# Altium footprint library 6U6DA_1229.PcbLib: 49 footprints (part 3 of 4)
Each footprint in its own frame and in the unit in brackets; x right, y up, seen from the top. Pads: shape width x height; smd on the part's side, far side on the other; paste and mask are expansions set on the pad; w line width, h text height; cw(c..) or ccw(c..) is an arc to the next point about the centre after c.
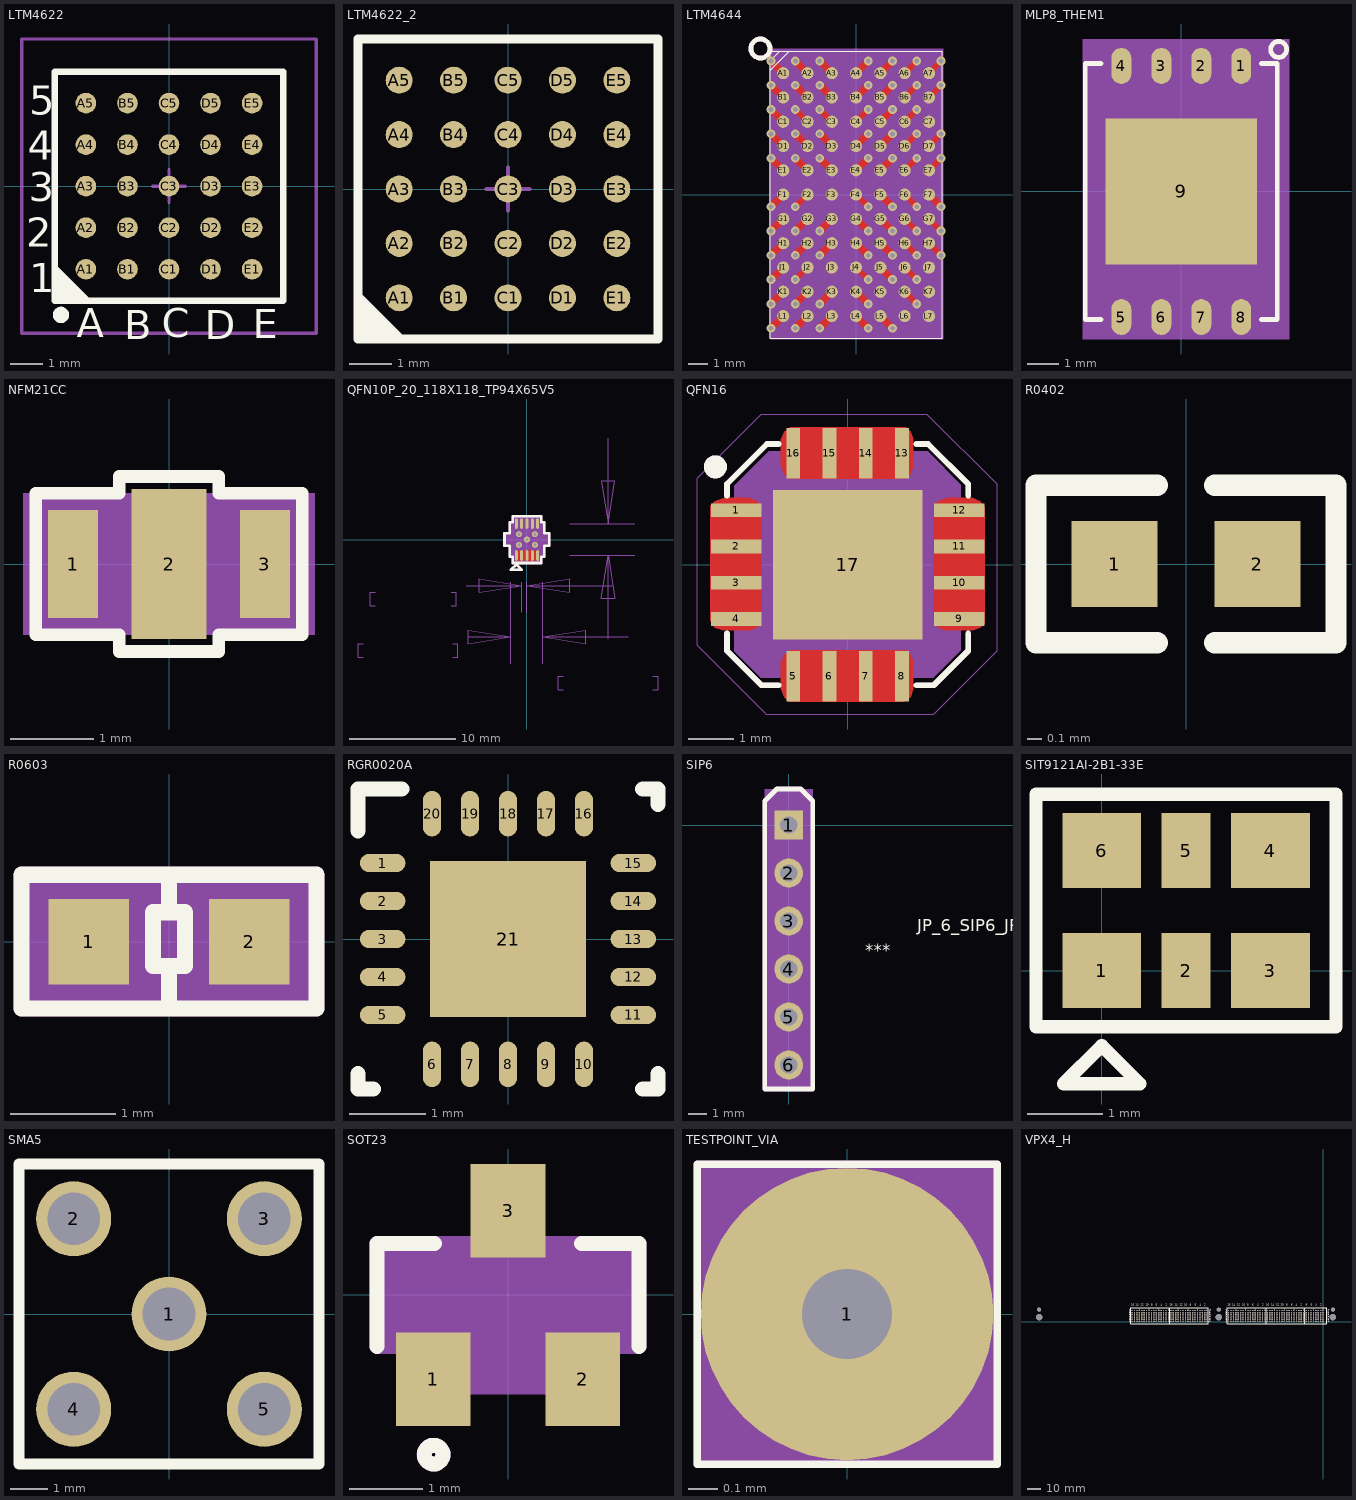
[diagram p2: the footprints below, top view; thin cyan lines are the x and y axes]

## LTM4622 [mm]
pads (25):
  round 0.63 smd: A1(-2.54,-2.54) A2(-2.54,-1.27) A3(-2.54,0) A4(-2.54,1.27) A5(-2.54,2.54) B1(-1.27,-2.54) B2(-1.27,-1.27) B3(-1.27,0) B4(-1.27,1.27) B5(-1.27,2.54) C1(0,-2.54) C2(0,-1.27) C3(0,0) C4(0,1.27) C5(0,2.54) D1(1.27,-2.54) D2(1.27,-1.27) D3(1.27,0) D4(1.27,1.27) D5(1.27,2.54) E1(2.54,-2.54) E2(2.54,-1.27) E3(2.54,0) E4(2.54,1.27) E5(2.54,2.54)
Top Overlay:
  circle w0.25: c-3.302,-3.937 r0.125
  region: -3.5,-2.5 -2.5,-3.5 -3.5,-3.5
  lines w0.2: -3.5,-2.5 -2.5,-3.5 ; -3.5,-3.5 -3.5,3.5 3.5,3.5 3.5,-3.5 -3.5,-3.5
  text "A" at -2.819,-4.623 h0.89
  text "B" at -1.372,-4.674 h0.89
  text "C" at -0.229,-4.623 h0.89
  text "D" at 1.092,-4.674 h0.89
  text "E" at 2.565,-4.648 h0.89
  text "1" at -4.267,-3.251 h0.89
  text "2" at -4.369,-1.854 h0.89
  text "3" at -4.293,-0.457 h0.89
  text "4" at -4.318,0.813 h0.89
  text "5" at -4.267,2.184 h0.89
Mechanical 13:
  lines w0.1: -3.5,-3.5 -3.5,3.5 3.5,3.5 3.5,-3.5 -3.5,-3.5
Mechanical 15:
  lines w0.1: -0.5,0 0.5,0 ; 0,-0.5 0,0.5 ; -4.5,-4.5 -4.5,4.5 4.5,4.5 4.5,-4.5 -4.5,-4.5
3D body: height 1.55, standoff 0, extent -3.5,-3.5 3.5,3.5

## LTM4622_2 [mm]
pads (25):
  round 0.63 smd: A1(-2.54,-2.54) A2(-2.54,-1.27) A3(-2.54,0) A4(-2.54,1.27) A5(-2.54,2.54) B1(-1.27,-2.54) B2(-1.27,-1.27) B3(-1.27,0) B4(-1.27,1.27) B5(-1.27,2.54) C1(0,-2.54) C2(0,-1.27) C3(0,0) C4(0,1.27) C5(0,2.54) D1(1.27,-2.54) D2(1.27,-1.27) D3(1.27,0) D4(1.27,1.27) D5(1.27,2.54) E1(2.54,-2.54) E2(2.54,-1.27) E3(2.54,0) E4(2.54,1.27) E5(2.54,2.54)
Top Overlay:
  region: -3.5,-2.5 -2.5,-3.5 -3.5,-3.5
  lines w0.2: -3.5,-2.5 -2.5,-3.5 ; -3.5,-3.5 -3.5,3.5 3.5,3.5 3.5,-3.5 -3.5,-3.5
Mechanical 13:
  lines w0.1: -3.5,-3.5 -3.5,3.5 3.5,3.5 3.5,-3.5 -3.5,-3.5
Mechanical 15:
  lines w0.1: -0.5,0 0.5,0 ; 0,-0.5 0,0.5
3D body: height 1.55, standoff 0, extent -3.5,-3.5 3.5,3.5

## LTM4644 [mm] "LTM4644"
pads (77):
  round 0.635 smd: A1(-3.81,6.35) A2(-2.54,6.35) A3(-1.27,6.35) A4(0,6.35) A5(1.27,6.35) A6(2.54,6.35) A7(3.81,6.35) B1(-3.81,5.08) B2(-2.54,5.08) B3(-1.27,5.08) B4(0,5.08) B5(1.27,5.08) B6(2.54,5.08) B7(3.81,5.08) C1(-3.81,3.81) C2(-2.54,3.81) C3(-1.27,3.81) C4(0,3.81) C5(1.27,3.81) C6(2.54,3.81) C7(3.81,3.81) D1(-3.81,2.54) D2(-2.54,2.54) D3(-1.27,2.54) D4(0,2.54) D5(1.27,2.54) D6(2.54,2.54) D7(3.81,2.54) E1(-3.81,1.27) E2(-2.54,1.27) E3(-1.27,1.27) E4(0,1.27) E5(1.27,1.27) E6(2.54,1.27) E7(3.81,1.27) F1(-3.81,0) F2(-2.54,0) F3(-1.27,0) F4(0,0) F5(1.27,0) F6(2.54,0) F7(3.81,0) G1(-3.81,-1.27) G2(-2.54,-1.27) G3(-1.27,-1.27) G4(0,-1.27) G5(1.27,-1.27) G6(2.54,-1.27) G7(3.81,-1.27) H1(-3.81,-2.54) H2(-2.54,-2.54) H3(-1.27,-2.54) H4(0,-2.54) H5(1.27,-2.54) H6(2.54,-2.54) H7(3.81,-2.54) J1(-3.81,-3.81) J2(-2.54,-3.81) J3(-1.27,-3.81) J4(0,-3.81) J5(1.27,-3.81) J6(2.54,-3.81) J7(3.81,-3.81) K1(-3.81,-5.08) K2(-2.54,-5.08) K3(-1.27,-5.08) K4(0,-5.08) K5(1.27,-5.08) K6(2.54,-5.08) K7(3.81,-5.08) L1(-3.81,-6.35) L2(-2.54,-6.35) L3(-1.27,-6.35) L4(0,-6.35) L5(1.27,-6.35) L6(2.54,-6.35) L7(3.81,-6.35)
via -1.905,-1.905 diameter 0.457 hole 0.254
via 0.635,-1.905 diameter 0.457 hole 0.254
via 1.905,-1.905 diameter 0.457 hole 0.254
via 0.635,-5.715 diameter 0.457 hole 0.254
via -1.905,-5.715 diameter 0.457 hole 0.254
via 4.445,-0.635 diameter 0.457 hole 0.254
via 1.905,-0.635 diameter 0.457 hole 0.254
via 1.905,-4.445 diameter 0.457 hole 0.254
via 0.635,3.175 diameter 0.457 hole 0.254
via 1.905,3.175 diameter 0.457 hole 0.254
via -1.905,3.175 diameter 0.457 hole 0.254
via 1.905,6.985 diameter 0.457 hole 0.254
via 0.635,6.985 diameter 0.457 hole 0.254
via 1.905,4.445 diameter 0.457 hole 0.254
via -3.175,-6.985 diameter 0.457 hole 0.254
via -3.175,-3.175 diameter 0.457 hole 0.254
via -4.445,-3.175 diameter 0.457 hole 0.254
via -4.445,-6.985 diameter 0.457 hole 0.254
via -3.175,5.715 diameter 0.457 hole 0.254
via -4.445,5.715 diameter 0.457 hole 0.254
via -3.175,1.905 diameter 0.457 hole 0.254
via -4.445,1.905 diameter 0.457 hole 0.254
via -3.175,-5.715 diameter 0.457 hole 0.254
via -4.445,-5.715 diameter 0.457 hole 0.254
via -4.445,-4.445 diameter 0.457 hole 0.254
via -1.905,-6.985 diameter 0.457 hole 0.254
via 0.635,-6.985 diameter 0.457 hole 0.254
via 1.905,-6.985 diameter 0.457 hole 0.254
via 0.635,-3.175 diameter 0.457 hole 0.254
via 1.905,-3.175 diameter 0.457 hole 0.254
via -1.905,-3.175 diameter 0.457 hole 0.254
via 1.905,5.715 diameter 0.457 hole 0.254
via 0.635,5.715 diameter 0.457 hole 0.254
via -1.905,5.715 diameter 0.457 hole 0.254
via -1.905,1.905 diameter 0.457 hole 0.254
via 0.635,1.905 diameter 0.457 hole 0.254
via 1.905,1.905 diameter 0.457 hole 0.254
via -1.905,6.985 diameter 0.457 hole 0.254
via -3.175,6.985 diameter 0.457 hole 0.254
via -4.445,4.445 diameter 0.457 hole 0.254
via -4.445,6.985 diameter 0.457 hole 0.254
via -4.445,-1.905 diameter 0.457 hole 0.254
via -3.175,-1.905 diameter 0.457 hole 0.254
via -4.445,-0.635 diameter 0.457 hole 0.254
via -4.445,3.175 diameter 0.457 hole 0.254
via -3.175,3.175 diameter 0.457 hole 0.254
via 3.175,-4.445 diameter 0.457 hole 0.254
via 3.175,-0.635 diameter 0.457 hole 0.254
via 3.175,4.445 diameter 0.457 hole 0.254
via 4.445,6.985 diameter 0.457 hole 0.254
via 4.445,-1.905 diameter 0.457 hole 0.254
via 4.445,3.175 diameter 0.457 hole 0.254
via 0.635,-0.635 diameter 0.457 hole 0.254
via 3.175,1.905 diameter 0.457 hole 0.254
via 3.175,-5.715 diameter 0.457 hole 0.254
via 4.445,5.715 diameter 0.457 hole 0.254
via 4.445,1.905 diameter 0.457 hole 0.254
via 4.445,-3.175 diameter 0.457 hole 0.254
via 3.175,-1.905 diameter 0.457 hole 0.254
via 3.175,3.175 diameter 0.457 hole 0.254
via 3.175,6.985 diameter 0.457 hole 0.254
via 0.635,4.445 diameter 0.457 hole 0.254
via 3.175,5.715 diameter 0.457 hole 0.254
via -3.175,4.445 diameter 0.457 hole 0.254
via -1.905,4.445 diameter 0.457 hole 0.254
via -3.175,-0.635 diameter 0.457 hole 0.254
via 0.635,-4.445 diameter 0.457 hole 0.254
via 3.175,-3.175 diameter 0.457 hole 0.254
via -3.175,-4.445 diameter 0.457 hole 0.254
Top Layer:
  lines w0.305: -3.175,-4.445 -2.54,-3.81 ; -3.175,-0.635 -2.54,0 ; -3.175,4.445 -2.54,3.81 ; -1.905,4.445 -1.27,3.81 ; 0,-3.81 0.635,-4.445 ; 0,0 0.635,-0.635 ; 0,3.81 0.635,4.445 ; 2.54,-5.08 3.175,-5.715 ; 2.54,-3.81 3.175,-4.445 ; 2.54,-2.54 3.175,-3.175 ; 2.54,-1.27 3.175,-1.905 ; 2.54,0 3.175,-0.635 ; 2.54,1.27 3.175,1.905 ; 2.54,2.54 3.175,3.175 ; 2.54,3.81 3.175,4.445 ; 2.54,5.08 3.175,5.715 ; 2.54,6.35 3.175,6.985 ; 3.81,-2.54 4.445,-3.175 ; 3.81,-1.27 4.445,-1.905 ; 3.81,1.27 4.445,1.905 ; 3.81,2.54 4.445,3.175 ; 3.81,5.08 4.445,5.715 ; 3.81,6.35 4.445,6.985
  lines w0.381: -4.445,-6.985 -3.81,-6.35 ; -4.445,-5.715 -3.81,-5.08 ; -4.445,-4.445 -3.81,-3.81 ; -4.445,-3.175 -3.81,-2.54 ; -4.445,-1.905 -3.81,-1.27 ; -4.445,-0.635 -3.81,0 ; -4.445,1.905 -3.81,1.27 ; -4.445,3.175 -3.81,2.54 ; -4.445,4.445 -3.81,3.81 ; -4.445,5.715 -3.81,5.08 ; -4.445,6.985 -3.81,6.35 ; -3.175,-6.985 -2.54,-6.35 ; -3.175,-5.715 -2.54,-5.08 ; -3.175,-3.175 -2.54,-2.54 ; -3.175,-1.905 -2.54,-1.27 ; -3.175,1.905 -2.54,1.27 ; -3.175,3.175 -2.54,2.54 ; -3.175,5.715 -2.54,5.08 ; -3.175,6.985 -2.54,6.35 ; -1.905,-6.985 -1.27,-6.35 ; -1.905,-5.715 -1.27,-5.08 ; -1.905,-3.175 -1.27,-2.54 ; -1.905,-1.905 -1.27,-1.27 ; -1.905,1.905 -1.27,1.27 ; -1.905,3.175 -1.27,2.54 ; -1.905,5.715 -1.27,5.08 ; -1.905,6.985 -1.27,6.35 ; 0,-6.35 0.635,-6.985 ; 0,-5.08 0.635,-5.715 ; 0,-2.54 0.635,-3.175 ; 0,-1.27 0.635,-1.905 ; 0,1.27 0.635,1.905 ; 0,2.54 0.635,3.175 ; 0,5.08 0.635,5.715 ; 0,6.35 0.635,6.985 ; 1.27,-6.35 1.905,-6.985 ; 1.27,-3.81 1.905,-4.445 ; 1.27,-2.54 1.905,-3.175 ; 1.27,-1.27 1.905,-1.905 ; 1.27,0 1.905,-0.635 ; 1.27,1.27 1.905,1.905 ; 1.27,2.54 1.905,3.175 ; 1.27,3.81 1.905,4.445 ; 1.27,5.08 1.905,5.715 ; 1.27,6.35 1.905,6.985 ; 3.81,0 4.445,-0.635
Top Overlay:
  lines w0.05: -4,7.5 -4.5,7 -4.5,6.5 ; -4.5,6.5 -3.5,7.5 -4.5,6.5 ; -4.5,-7.5 -4.5,7.5 4.5,7.5 4.5,-7.5 -4.5,-7.5
  lines w0.25: -5.5,7.635 cw(c-5,7.635) -5,8.135 cw(c-5,7.635) -4.5,7.635 cw(c-5,7.635) -5,7.135 cw(c-5,7.635) -5.5,7.635
Mechanical 5:
  lines w0.05: -4,7.5 -4.5,7 -4.5,6.5 ; -4.5,6.5 -3.5,7.5 -4.5,6.5 ; -4.5,-7.5 -4.5,7.5 4.5,7.5 4.5,-7.5 -4.5,-7.5
  lines w0.25: -5.5,7.635 ccw(c-5,7.635) -5,7.135 ccw(c-5,7.635) -4.5,7.635 ccw(c-5,7.635) -5,8.135 ccw(c-5,7.635) -5.5,7.635
  text "U136" at 4.954,1.557 h0.64
Mechanical 14:
  text "G3" at -1.27,-0.762 h0.64
  text "G4" at 0,-0.762 h0.64
  text "G5" at 1.27,-0.762 h0.64
  text "K4" at 0,-4.572 h0.64
  text "K3" at -1.27,-4.572 h0.64
  text "F7" at 3.81,0.508 h0.64
  text "F5" at 1.27,0.508 h0.64
  text "J5" at 1.27,-3.302 h0.64
  text "D4" at 0,3.048 h0.64
  text "D5" at 1.27,3.048 h0.64
  text "D3" at -1.27,3.048 h0.64
  text "A5" at 1.27,6.858 h0.64
  text "A4" at 0,6.858 h0.64
  text "C5" at 1.27,4.318 h0.64
  text "L2" at -2.54,-5.842 h0.64
  text "H2" at -2.54,-2.032 h0.64
  text "H1" at -3.81,-2.032 h0.64
  text "L1" at -3.81,-5.842 h0.64
  text "B2" at -2.54,5.588 h0.64
  text "B1" at -3.81,5.588 h0.64
  text "E2" at -2.54,1.778 h0.64
  text "E1" at -3.81,1.778 h0.64
  text "K2" at -2.54,-4.572 h0.64
  text "K1" at -3.81,-4.572 h0.64
  text "J1" at -3.81,-3.302 h0.64
  text "L3" at -1.27,-5.842 h0.64
  text "L4" at 0,-5.842 h0.64
  text "L5" at 1.27,-5.842 h0.64
  text "H4" at 0,-2.032 h0.64
  text "H5" at 1.27,-2.032 h0.64
  text "H3" at -1.27,-2.032 h0.64
  text "B5" at 1.27,5.588 h0.64
  text "B4" at 0,5.588 h0.64
  text "B3" at -1.27,5.588 h0.64
  text "E3" at -1.27,1.778 h0.64
  text "E4" at 0,1.778 h0.64
  text "E5" at 1.27,1.778 h0.64
  text "A3" at -1.27,6.858 h0.64
  text "A2" at -2.54,6.858 h0.64
  text "C1" at -3.81,4.318 h0.64
  text "A1" at -3.81,6.858 h0.64
  text "G1" at -3.81,-0.762 h0.64
  text "G2" at -2.54,-0.762 h0.64
  text "F1" at -3.81,0.508 h0.64
  text "D1" at -3.81,3.048 h0.64
  text "D2" at -2.54,3.048 h0.64
  text "F3" at -1.27,0.508 h0.64
  text "L7" at 3.81,-5.842 h0.64
  text "J3" at -1.27,-3.302 h0.64
  text "C7" at 3.81,4.318 h0.64
  text "J6" at 2.54,-3.302 h0.64
  text "F6" at 2.54,0.508 h0.64
  text "C6" at 2.54,4.318 h0.64
  text "A7" at 3.81,6.858 h0.64
  text "G7" at 3.81,-0.762 h0.64
  text "D7" at 3.81,3.048 h0.64
  text "F4" at 0,0.508 h0.64
  text "E6" at 2.54,1.778 h0.64
  text "K6" at 2.54,-4.572 h0.64
  text "B7" at 3.81,5.588 h0.64
  text "E7" at 3.81,1.778 h0.64
  text "H7" at 3.81,-2.032 h0.64
  text "K7" at 3.81,-4.572 h0.64
  text "J7" at 3.81,-3.302 h0.64
  text "G6" at 2.54,-0.762 h0.64
  text "D6" at 2.54,3.048 h0.64
  text "A6" at 2.54,6.858 h0.64
  text "C4" at 0,4.318 h0.64
  text "B6" at 2.54,5.588 h0.64
  text "C2" at -2.54,4.318 h0.64
  text "C3" at -1.27,4.318 h0.64
  text "F2" at -2.54,0.508 h0.64
  text "J4" at 0,-3.302 h0.64
  text "H6" at 2.54,-2.032 h0.64
  text "J2" at -2.54,-3.302 h0.64
  text "K5" at 1.27,-4.572 h0.64
  text "L6" at 2.54,-5.842 h0.64
Mechanical 16:
  circle w0.05: c0,0 r0.35
  region: -4.445,-7.55 4.55,-7.55 4.55,7.625 -4.445,7.625
  lines w0.05: -0.5,0 0.5,0 ; 0,-0.5 0,0.5
  lines w0.1: -4.5,6.5 -3.5,7.5 ; -4.5,6.6 -3.6,7.5 ; -4.5,6.7 -3.7,7.5 ; -4.5,6.8 -3.8,7.5 ; -4.5,6.9 -3.9,7.5 ; -4.5,7 -4,7.5 ; -4.5,7.1 -4.1,7.5 ; -4.5,7.2 -4.2,7.5 ; -4.5,7.3 -4.3,7.5 ; -4.5,7.4 -4.4,7.5 ; -4.5,-7.5 4.5,-7.5 4.5,7.5 -4.5,7.5 -4.5,-7.5
Mechanical 17:
  text "LTM4644IY" at 7.62,4.826 h0.64
3D body: height 3.81, standoff 0, extent -4.445,-7.55 4.55,7.625

## MLP8_THEM1 [mil] "MLP8_THEM1"
pads (9):
  oval 25x45 smd: 1(75,157) 2(25,157) 3(-25,157) 4(-75,157) 5(-75,-157) 6(-25,-157) 7(25,-157) 8(75,-157)
  rect 188.98x183.07 smd: 9(0,0)
Top Overlay:
  lines w6: -100,-160 -120,-160 -120,160 -100,160 ; 100,-160 120,-160 120,160 100,160 ; 111.81,177.66 ccw(c121.81,177.66) 121.81,167.66 ccw(c121.81,177.66) 131.81,177.66 ccw(c121.81,177.66) 121.81,187.66 ccw(c121.81,177.66) 111.81,177.66
Mechanical 5:
  lines w6: -100,-160 -120,-160 -120,160 -100,160 ; 100,-160 120,-160 120,160 100,160 ; 111.81,177.66 cw(c121.81,177.66) 121.81,187.66 cw(c121.81,177.66) 131.81,177.66 cw(c121.81,177.66) 121.81,167.66 cw(c121.81,177.66) 111.81,177.66
  text "U17" at -140.75,87.16 h25
Mechanical 14:
  text "9" at 0,-20 h25
  text "4" at -75,153 h10
  text "6" at -25,-161 h10
  text "2" at 25,153 h10
  text "7" at 25,-161 h10
  text "5" at -75,-161 h10
  text "1" at 75,153 h10
  text "3" at -25,153 h10
  text "8" at 75,-161 h10
Mechanical 16:
  region: -123,-184.5 134.81,-184.5 134.81,190.66 -123,190.66
  lines w6: -100,-160 -120,-160 -120,160 -100,160 ; 100,-160 120,-160 120,160 100,160
Mechanical 17:
  text ".Designator" at -10,-10 h31.1
  text "MT25QU256ABA1EW9-0SIT" at -100,-60 h25
3D body: height 150, standoff 0, extent -123,-184.5 134.81,190.66

## NFM21CC [mm] "NFM21CC"
pads (3):
  rect 0.6x1.3 smd: 1(-1.15,0) 3(1.15,0)
  rect 0.9x1.8 smd: 2(0,0)
Top Overlay:
  lines w0.15: -1.6,-0.85 -0.6,-0.85 -0.6,-1.05 0.6,-1.05 0.6,-0.85 1.6,-0.85 1.6,0.85 0.6,0.85 0.6,1.05 -0.6,1.05 -0.6,0.85 -1.6,0.85 -1.6,-0.85
Mechanical 14:
  text "2" at 0,-0.203 h0.25
  text "1" at -1.15,-0.203 h0.25
  text "3" at 1.15,-0.203 h0.25
Mechanical 16:
  region: -1.75,0.85 -1.75,-0.85 1.75,-0.85 1.75,0.85
Mechanical 20:
  text "NFM21PC225B0J3" at -0.5,1.53 h0.25
3D body: height 3.81, standoff 0, extent -1.75,-0.85 1.75,0.85

## QFN10P_20_118X118_TP94X65V5 [mil] "QFN10P_20_118X118_TP94X65V5"
pads (16):
  oval 11x39 smd: 1(-39.37,-59.06) 2(-19.69,-59.06) 3(0,-59.06) 4(19.69,-59.06) 5(39.37,-59.06) 6(39.37,59.06) 7(19.69,59.06) 8(0,59.06) 9(-19.69,59.06) 10(-39.37,59.06)
  oct 1x1 smd: 11(0,0)
  round 22 hole 12: 12(-29.53,-19.69) 13(29.53,-19.69) 14(-29.53,19.69) 15(29.53,19.69) 16(0,0)
Top Layer:
  region: -33.87,-78.56 -29.53,-78.56 -29.53,-39.56 -33.87,-39.56
  region: -29.53,-78.56 -25.19,-78.56 -25.19,-39.56 -29.53,-39.56
  region: -14.19,-78.56 -9.85,-78.56 -9.85,-39.56 -14.19,-39.56
  region: -9.84,-78.56 -5.5,-78.56 -5.5,-39.56 -9.84,-39.56
  region: 5.5,-78.56 9.84,-78.56 9.84,-39.56 5.5,-39.56
  region: 9.85,-78.56 14.19,-78.56 14.19,-39.56 9.85,-39.56
  region: 25.19,-78.56 29.53,-78.56 29.53,-39.56 25.19,-39.56
  region: 29.53,-78.56 33.87,-78.56 33.87,-39.56 29.53,-39.56
Top Overlay:
  lines w10: -83,-23 -64.06,-23 -64.06,-64.06 -52.87,-64.06 -52.87,-86.56 52.87,-86.56 52.87,-64.06 64.06,-64.06 64.06,-23 83,-23 83,23 64.06,23 64.06,64.06 52.87,64.06 52.87,86.56 -52.87,86.56 -52.87,64.06 -64.06,64.06 -64.06,23 -83,23 -83,-23 ; -59.37,-111.56 -19.37,-111.56 -39.37,-91.56 -59.37,-111.56
Mechanical 5:
  lines w10: -83,-23 -83,23 -64.06,23 -64.06,64.06 -52.87,64.06 -52.87,86.56 52.87,86.56 52.87,64.06 64.06,64.06 64.06,23 83,23 83,-23 64.06,-23 64.06,-64.06 52.87,-64.06 52.87,-86.56 -52.87,-86.56 -52.87,-64.06 -64.06,-64.06 -64.06,-23 -83,-23 ; -59.37,-111.56 -39.37,-91.56 -19.37,-111.56 -59.37,-111.56
  text "U97" at 48.47,-100.62 h25
Mechanical 13:
  lines w1: -605.5,-435 -624.5,-435 -624.5,-385 -605.5,-385 ; -560,-245 -579,-245 -579,-195 -560,-195 ; -280,-245 -261,-245 -261,-195 -280,-195 ; -274.5,-435 -255.5,-435 -255.5,-385 -274.5,-385 ; -223.5,-170 -19.69,-170 ; -218,-360 -59.06,-360 ; -59.06,-458.43 -59.06,-157.48 ; -19.69,-268.43 -19.69,-157.48 ; 0,-268.43 0,-157.48 ; 59.06,-458.43 59.06,-157.48 ; 134.5,-555 115.5,-555 115.5,-505 134.5,-505 ; 157.48,-59.06 398.43,-59.06 ; 157.48,59.06 398.43,59.06 ; 300,-367.5 300,-59.06 ; 300,374.02 300,59.06 ; 314.96,-170 0,-170 ; 374.02,-360 59.06,-360 ; 465.5,-555 484.5,-555 484.5,-505 465.5,-505 ; -59.06,-360 -216.54,-335.39 -216.54,-384.61 -59.06,-360 ; -19.69,-170 -177.17,-145.39 -177.17,-194.61 -19.69,-170 ; 0,-170 157.48,-194.61 157.48,-145.39 0,-170 ; 59.06,-360 216.54,-384.61 216.54,-335.39 59.06,-360 ; 300,-59.06 275.39,-216.54 324.61,-216.54 300,-59.06 ; 300,59.06 324.61,216.54 275.39,216.54 300,59.06
  text "0.5" at -490,-145 h36
  text "19.69" at -541,-245 h36
  text "3" at -459,-335 h36
  text "118.11" at -586.5,-435 h36
  text "3" at 281,-455 h36
  text "118.11" at 153.5,-555 h36
Mechanical 14:
  text "11" at 22.4,0 h28
  text "12" at -7.13,-19.69 h28
  text "15" at 51.93,19.69 h28
  text "16" at 22.4,0 h28
  text "14" at -7.13,19.69 h28
  text "13" at 51.93,-19.69 h28
  text "8" at 11.2,59.06 h28
  text "4" at 30.89,-59.06 h28
  text "10" at -16.97,59.06 h28
  text "6" at 50.57,59.06 h28
  text "5" at 50.57,-59.06 h28
  text "3" at 11.2,-59.06 h28
  text "2" at -8.49,-59.06 h28
  text "9" at -8.49,59.06 h28
  text "7" at 30.89,59.06 h28
  text "1" at -28.17,-59.06 h28
Mechanical 16:
  region: -59.06,-59.06 59.06,-59.06 59.06,59.06 -59.06,59.06
  pour cut-out: 52.87,86.56 52.87,64.06 64.06,64.06 64.06,23 83,23 83,-23 64.06,-23 64.06,-64.06 52.87,-64.06 52.87,-86.56 -52.87,-86.56 -52.87,-64.06 -64.06,-64.06 -64.06,-23 -83,-23 -83,23 -64.06,23 -64.06,64.06 -52.87,64.06 -52.87,86.56
  lines w1: -59.06,-59.06 59.06,-59.06 59.06,59.06 -59.06,59.06 -59.06,-59.06
Mechanical 17:
  text ".Designator" at 6,1.67 h5
3D body: height 150, standoff 0, extent -59.06,-59.06 59.06,59.06

## QFN16 [mil] "QFN16"
pads (17):
  rect 44x12 smd: 1(-97,47.24) 2(-97,15.75) 3(-97,-15.75) 4(-97,-47.24) 9(97,-47.24) 10(97,-15.75) 11(97,15.75) 12(97,47.24)
  rect 12x44 smd: 5(-47.24,-97) 6(-15.75,-97) 7(15.75,-97) 8(47.24,-97) 13(47.24,97) 14(15.75,97) 15(-15.75,97) 16(-47.24,97)
  rect 130x130 smd: 17(0,0)
Top Layer:
  region: -74.5,50 -74.5,-51 -78.5,-55 -84.5,-57 -108.5,-57 -115.5,-55 -119.5,-49 -119.5,51 -115.5,55 -107.5,58 -85.5,58 -78.5,55
  region: 119.5,50 119.5,-51 115.5,-55 109.5,-57 85.5,-57 78.5,-55 74.5,-49 74.5,51 78.5,55 86.5,58 108.5,58 115.5,55
  region: -50,-74.5 51,-74.5 55,-78.5 57,-84.5 57,-108.5 55,-115.5 49,-119.5 -51,-119.5 -55,-115.5 -58,-107.5 -58,-85.5 -55,-78.5
  region: -50,119.5 51,119.5 55,115.5 57,109.5 57,85.5 55,78.5 49,74.5 -51,74.5 -55,78.5 -58,86.5 -58,108.5 -55,115.5
Top Overlay:
  circle w10: c-115,85 r5
  lines w5: -105,-60 -105,-75 -75,-105 -60,-105 ; -105,60 -105,70 -70,105 -60,105 ; 60,-105 75,-105 105,-75 105,-60 ; 60,105 70,105 105,70 105,60
Mechanical 5:
  circle w10: c-115,85 r5
  lines w5: -105,-60 -105,-75 -75,-105 -60,-105 ; -105,60 -105,70 -70,105 -60,105 ; 60,-105 75,-105 105,-75 105,-60 ; 60,105 70,105 105,70 105,60
  text "U78" at 210.68,-32.7 h25
  text "MAX8556_1_QFN16_MAX8556ETE+" at 291,-81.67 h20
Mechanical 14:
  text "17" at 64,0 h80
  text "15" at 48.25,97 h80
  text "14" at 79.75,97 h80
  text "1" at -65,47.24 h80
  text "2" at -65,15.75 h80
  text "3" at -65,-15.75 h80
  text "4" at -65,-47.24 h80
  text "5" at -15.24,-97 h80
  text "6" at 16.25,-97 h80
  text "12" at 161,47.24 h80
  text "13" at 111.24,97 h80
  text "11" at 161,15.75 h80
  text "10" at 161,-15.75 h80
  text "9" at 129,-47.24 h80
  text "7" at 47.75,-97 h80
  text "8" at 79.24,-97 h80
  text "16" at 16.76,97 h80
Mechanical 16:
  region: 98.43,-74.58 75,-98 74.58,-98.43 -75.58,-98.43 -76,-98 -98.43,-75.58 -98.43,68.58 -98,69 -68.58,98.43 69.58,98.43 70,98 98.43,69.58
  lines w1: -131,-70 -131,75 -75,131 -65,131 69,131 130,70 130,-75 75,-130 -71,-130 -71.49,-129.48 -131,-70
Mechanical 17:
  text "MAX8556ETE+" at 13,-100 h20
  text ".Designator" at 6,-1.67 h5
3D body: height 150, standoff 0, extent -98.43,-98.43 98.43,98.43

## R0402 [mm]
pads (2):
  rect 0.6x0.6 smd: 1(-0.5,0) 2(0.5,0)
Top Overlay:
  lines w0.15: -0.2,-0.55 -1.05,-0.55 -1.05,0.55 -0.2,0.55 ; 0.2,-0.55 1.05,-0.55 1.05,0.55 0.2,0.55

## R0603 [mil] "R0603"
pads (2):
  rect 30x32 smd: 1(-30,0) 2(30,0)
Top Overlay:
  lines w6: 0,-25 0,-10 ; 0,24 0,11 ; 0,11 6,11 6,-9 -6,-9 -6,11 0,11 ; -55,-25 -55,25 55,25 55,-25 -55,-25
Mechanical 14:
  text "2" at 20,0 h25
  text "1" at -40,0 h25
Mechanical 16:
  region: -56,-25 -56,27 56,27 56,-25
  lines w6: 0,-25 0,-10 ; 0,24 0,11 ; 0,11 6,11 6,-9 -6,-9 -6,11 0,11 ; -55,-25 -55,25 55,25 55,-25 -55,-25
Mechanical 20:
  text "SR0603" at -66,209 h25
  text "RESISTOR_R0603_1.21K/1%" at -241,148 h25
  text "1.21K/1%" at 59,148 h25
3D body: height 150, standoff 0, extent -56,-25 56,27

## RGR0020A [mm]
pads (21):
  oval 0.6x0.24 smd: 1(-1.65,1) 2(-1.65,0.5) 3(-1.65,0) 4(-1.65,-0.5) 5(-1.65,-1) 11(1.65,-1) 12(1.65,-0.5) 13(1.65,0) 14(1.65,0.5) 15(1.65,1)
  oval 0.24x0.6 smd: 6(-1,-1.65) 7(-0.5,-1.65) 8(0,-1.65) 9(0.5,-1.65) 10(1,-1.65) 16(1,1.65) 17(0.5,1.65) 18(0,1.65) 19(-0.5,1.65) 20(-1,1.65)
  rect 2.05x2.05 smd: 21(0,0)
Top Overlay:
  lines w0.2: -1.975,-1.775 -1.975,-1.975 -1.775,-1.975 ; -1.975,1.425 -1.975,1.975 -1.4,1.975 ; 1.775,-1.975 1.975,-1.975 1.975,-1.775 ; 1.775,1.975 1.975,1.975 1.975,1.775

## SIP6 [mil] "SIP6"
pads (6):
  rect 60x60 / inner rect 55x55 / far side rect 60x60 hole 36: 1(0,0)
  round 60 / inner round 55 / far side round 60 hole 36: 2(0,-100) 3(0,-200) 4(0,-300) 5(0,-400) 6(0,-500)
Top Overlay:
  lines w10: -50,-550 -50,50 -25,75 25,75 50,50 50,-550 -50,-550
  text ".Designator" at 25,-570 h25
  text "JP_6_SIP6_JP_6" at 268,-221 h25
  text "***" at 160,-272 h25
Mechanical 5:
  lines w10: -50,-550 -50,50 -25,75 25,75 50,50 50,-550 -50,-550
  text "***" at 186.66,-228.66 h25
  text "JP_6_SIP6_JP_6" at 259.66,-212.66 h25
  text "J5" at 25.01,-570 h25
Mechanical 14:
  text "4" at 8,-300 h10
  text "6" at 8,-500 h10
  text "3" at 8,-200 h10
  text "5" at 8,-400 h10
  text "1" at 8,0 h10
  text "2" at 8,-100 h10
Mechanical 16:
  region: -50,-550 50,-550 50,75 -50,75
  lines w1: -50,-550 -50,50 -25,75 25,75 50,50 50,-550 -50,-550
Mechanical 17:
  text "***" at 9,-447 h25
3D body: height 150, standoff 0, extent -50,-550 50,75

## SIT9121AI-2B1-33E [mm]
pads (6):
  rect 1.05x1 smd: 1(0,0) 3(2.25,0) 4(2.25,1.6) 6(0,1.6)
  rect 0.65x1 smd: 2(1.125,0) 5(1.125,1.6)
Top Overlay:
  lines w0.178: -0.875,-0.75 -0.875,2.35 3.125,2.35 3.125,-0.75 -0.875,-0.75 ; -0.508,-1.508 0,-1 0.508,-1.508 -0.508,-1.508

## SMA5 [mm]
pads (5):
  round 2 hole 1.4: 1(0,0) 2(-2.54,2.54) 3(2.54,2.54) 4(-2.54,-2.54) 5(2.54,-2.54)
Top Overlay:
  lines w0.305: -4,-4 4,-4 4,4 -4,4 -4,-4

## SOT23 [mil] "SOT23"
pads (3):
  rect 40x50 smd: 1(-40,-45) 2(40,-45) 3(0,45)
Top Overlay:
  circle w8: c-39.8,-85.4 r5
  lines w8: -70,-27.6 -70,27.6 -39.4,27.6 ; 39.4,27.6 70,27.6 70,-27.6
Mechanical 5:
  lines w8: -70,-27.6 -70,27.6 -39.4,27.6 ; 39.4,27.6 70,27.6 70,-27.6 ; -44.8,-85.4 cw(c-39.8,-85.4) -39.8,-80.4 cw(c-39.8,-85.4) -34.8,-85.4 cw(c-39.8,-85.4) -39.8,-90.4 cw(c-39.8,-85.4) -44.8,-85.4
  text "U16" at 117.51,67.5 h25
  text "REF3025AIDDBZT_1_SOT23_REF3012A" at -85.3,157.4 h60
Mechanical 14:
  text "3" at 0,38.7 h15.75
  text "1" at -40,-51.3 h15.75
  text "2" at 40,-51.3 h15.75
Mechanical 16:
  region: -49.2,-49.2 -49.2,-27.6 -70,-27.6 -70,27.6 -11.8,27.6 -11.8,49.2 11.8,49.2 11.8,27.6 70,27.6 70,-27.6 49.2,-27.6 49.2,-49.2
  lines w8: -70,-27.6 -49.2,-27.6 -49.2,-49.2 49.2,-49.2 49.2,-27.6 70,-27.6 70,27.6 11.8,27.6 11.8,49.2 -11.8,49.2 -11.8,27.6 -70,27.6 -70,-27.6
3D body: height 150, standoff 0, extent -70,-49.2 70,49.2

## TESTPOINT_VIA [mil] "TESTPOINT_VIA"
pads (1):
  round 39 / inner round 20 / far side round 39 hole 12: 1(0,0)
Top Overlay:
  lines w1: -20,-20 -20,20 20,20 20,-20 -20,-20
Mechanical 5:
  lines w1: -20,-20 -20,20 20,20 20,-20 -20,-20
  text "TP38" at -117.19,97.15 h25
Mechanical 14:
  text "1" at 0,8 h20
Mechanical 16:
  region: -20,-20 20,-20 20,20 -20,20
  pour cut-out: -20,-20 20,-20 20,20 -20,20
  lines w1: -20,-20 -20,20 20,20 20,-20 -20,-20
Mechanical 17:
  text ".Designator" at 0,40 h25
3D body: height 150, standoff 0, extent -20,-20 20,20

## VPX4_H [mm]
pads (528):
  round 0.95 hole 0.45: P0_A1(0,0) P0_A2(-1.8,0) P0_A3(-3.6,0) P0_A4(-5.4,0) P0_A5(-7.2,0) P0_A6(-9,0) P0_A7(-10.8,0) P0_A8(-12.6,0) P0_B1(0,1.35) P0_B2(-1.8,1.35) P0_B3(-3.6,1.35) P0_B4(-5.4,1.35) P0_B5(-7.2,1.35) P0_B6(-9,1.35) P0_B7(-10.8,1.35) P0_B8(-12.6,1.35) P0_C1(0,2.7) P0_C2(-1.8,2.7) P0_C3(-3.6,2.7) P0_C4(-5.4,2.7) P0_C5(-7.2,2.7) P0_C6(-9,2.7) P0_C7(-10.8,2.7) P0_C8(-12.6,2.7) P0_D1(0,4.05) P0_D2(-1.8,4.05) P0_D3(-3.6,4.05) P0_D4(-5.4,4.05) P0_D5(-7.2,4.05) P0_D6(-9,4.05) P0_D7(-10.8,4.05) P0_D8(-12.6,4.05) P0_E1(0,5.4) P0_E2(-1.8,5.4) P0_E3(-3.6,5.4) P0_E4(-5.4,5.4) P0_E5(-7.2,5.4) P0_E6(-9,5.4) P0_E7(-10.8,5.4) P0_E8(-12.6,5.4) P0_F1(0,6.75) P0_F2(-1.8,6.75) P0_F3(-3.6,6.75) P0_F4(-5.4,6.75) P0_F5(-7.2,6.75) P0_F6(-9,6.75) P0_F7(-10.8,6.75) P0_F8(-12.6,6.75) P0_G1(0,8.1) P0_G2(-1.8,8.1) P0_G3(-3.6,8.1) P0_G4(-5.4,8.1) P0_G5(-7.2,8.1) P0_G6(-9,8.1) P0_G7(-10.8,8.1) P0_G8(-12.6,8.1) P1_A1(-14.4,0) P1_A2(-16.2,0) P1_A3(-18,0) P1_A4(-19.8,0) P1_A5(-21.6,0) P1_A6(-23.4,0) P1_A7(-25.2,0) P1_A8(-27,0) P1_A9(-28.8,0) P1_A10(-30.6,0) P1_A11(-32.4,0) P1_A12(-34.2,0) P1_A13(-36,0) P1_A14(-37.8,0) P1_A15(-39.6,0) P1_A16(-41.4,0) P1_B1(-14.4,1.35) P1_B2(-16.2,1.35) P1_B3(-18,1.35) P1_B4(-19.8,1.35) P1_B5(-21.6,1.35) P1_B6(-23.4,1.35) P1_B7(-25.2,1.35) P1_B8(-27,1.35) P1_B9(-28.8,1.35) P1_B10(-30.6,1.35) P1_B11(-32.4,1.35) P1_B12(-34.2,1.35) P1_B13(-36,1.35) P1_B14(-37.8,1.35) P1_B15(-39.6,1.35) P1_B16(-41.4,1.35) P1_C1(-14.4,2.7) P1_C2(-16.2,2.7) P1_C3(-18,2.7) P1_C4(-19.8,2.7) P1_C5(-21.6,2.7) P1_C6(-23.4,2.7) P1_C7(-25.2,2.7) P1_C8(-27,2.7) P1_C9(-28.8,2.7) P1_C10(-30.6,2.7) P1_C11(-32.4,2.7) P1_C12(-34.2,2.7) P1_C13(-36,2.7) P1_C14(-37.8,2.7) P1_C15(-39.6,2.7) P1_C16(-41.4,2.7) P1_D1(-14.4,4.05) P1_D2(-16.2,4.05) P1_D3(-18,4.05) P1_D4(-19.8,4.05) P1_D5(-21.6,4.05) P1_D6(-23.4,4.05) P1_D7(-25.2,4.05) P1_D8(-27,4.05) P1_D9(-28.8,4.05) P1_D10(-30.6,4.05) P1_D11(-32.4,4.05) P1_D12(-34.2,4.05) P1_D13(-36,4.05) P1_D14(-37.8,4.05) P1_D15(-39.6,4.05) P1_D16(-41.4,4.05) P1_E1(-14.4,5.4) P1_E2(-16.2,5.4) P1_E3(-18,5.4) P1_E4(-19.8,5.4) P1_E5(-21.6,5.4) P1_E6(-23.4,5.4) P1_E7(-25.2,5.4) P1_E8(-27,5.4) P1_E9(-28.8,5.4) P1_E10(-30.6,5.4) P1_E11(-32.4,5.4) P1_E12(-34.2,5.4) P1_E13(-36,5.4) P1_E14(-37.8,5.4) P1_E15(-39.6,5.4) P1_E16(-41.4,5.4) P1_F1(-14.4,6.75) P1_F2(-16.2,6.75) P1_F3(-18,6.75) P1_F4(-19.8,6.75) P1_F5(-21.6,6.75) P1_F6(-23.4,6.75) P1_F7(-25.2,6.75) P1_F8(-27,6.75) P1_F9(-28.8,6.75) P1_F10(-30.6,6.75) P1_F11(-32.4,6.75) P1_F12(-34.2,6.75) P1_F13(-36,6.75) P1_F14(-37.8,6.75) P1_F15(-39.6,6.75) P1_F16(-41.4,6.75) P1_G1(-14.4,8.1) P1_G2(-16.2,8.1) P1_G3(-18,8.1) P1_G4(-19.8,8.1) P1_G5(-21.6,8.1) P1_G6(-23.4,8.1) P1_G7(-25.2,8.1) P1_G8(-27,8.1) P1_G9(-28.8,8.1) P1_G10(-30.6,8.1) P1_G11(-32.4,8.1) P1_G12(-34.2,8.1) P1_G13(-36,8.1) P1_G14(-37.8,8.1) P1_G15(-39.6,8.1) P1_G16(-41.4,8.1) P2_A1(-43.2,0) P2_A2(-45,0) P2_A3(-46.8,0) P2_A4(-48.6,0) P2_A5(-50.4,0) P2_A6(-52.2,0) P2_A7(-54,0) P2_A8(-55.8,0) P2_A9(-57.6,0) P2_A10(-59.4,0) P2_A11(-61.2,0) P2_A12(-63,0) P2_A13(-64.8,0) P2_A14(-66.6,0) P2_A15(-68.4,0) P2_A16(-70.2,0) P2_B1(-43.2,1.35) P2_B2(-45,1.35) P2_B3(-46.8,1.35) P2_B4(-48.6,1.35) P2_B5(-50.4,1.35) P2_B6(-52.2,1.35) P2_B7(-54,1.35) P2_B8(-55.8,1.35) P2_B9(-57.6,1.35) P2_B10(-59.4,1.35) P2_B11(-61.2,1.35) P2_B12(-63,1.35) P2_B13(-64.8,1.35) P2_B14(-66.6,1.35) P2_B15(-68.4,1.35) P2_B16(-70.2,1.35) P2_C1(-43.2,2.7) P2_C2(-45,2.7) P2_C3(-46.8,2.7) P2_C4(-48.6,2.7) P2_C5(-50.4,2.7) P2_C6(-52.2,2.7) P2_C7(-54,2.7) P2_C8(-55.8,2.7) P2_C9(-57.6,2.7) P2_C10(-59.4,2.7) P2_C11(-61.2,2.7) P2_C12(-63,2.7) P2_C13(-64.8,2.7) P2_C14(-66.6,2.7) P2_C15(-68.4,2.7) P2_C16(-70.2,2.7) P2_D1(-43.2,4.05) P2_D2(-45,4.05) P2_D3(-46.8,4.05) P2_D4(-48.6,4.05) P2_D5(-50.4,4.05) P2_D6(-52.2,4.05) P2_D7(-54,4.05) P2_D8(-55.8,4.05) P2_D9(-57.6,4.05) P2_D10(-59.4,4.05) P2_D11(-61.2,4.05) P2_D12(-63,4.05) P2_D13(-64.8,4.05) P2_D14(-66.6,4.05) P2_D15(-68.4,4.05) P2_D16(-70.2,4.05) P2_E1(-43.2,5.4) P2_E2(-45,5.4) P2_E3(-46.8,5.4) P2_E4(-48.6,5.4) P2_E5(-50.4,5.4) P2_E6(-52.2,5.4) P2_E7(-54,5.4) P2_E8(-55.8,5.4) P2_E9(-57.6,5.4) P2_E10(-59.4,5.4) P2_E11(-61.2,5.4) P2_E12(-63,5.4) P2_E13(-64.8,5.4) P2_E14(-66.6,5.4) P2_E15(-68.4,5.4) P2_E16(-70.2,5.4) P2_F1(-43.2,6.75) P2_F2(-45,6.75) P2_F3(-46.8,6.75) P2_F4(-48.6,6.75) P2_F5(-50.4,6.75) P2_F6(-52.2,6.75) P2_F7(-54,6.75) P2_F8(-55.8,6.75) P2_F9(-57.6,6.75) P2_F10(-59.4,6.75) P2_F11(-61.2,6.75) P2_F12(-63,6.75) P2_F13(-64.8,6.75) P2_F14(-66.6,6.75) P2_F15(-68.4,6.75) P2_F16(-70.2,6.75) P2_G1(-43.2,8.1) P2_G2(-45,8.1) P2_G3(-46.8,8.1) P2_G4(-48.6,8.1) P2_G5(-50.4,8.1) P2_G6(-52.2,8.1) P2_G7(-54,8.1) P2_G8(-55.8,8.1) P2_G9(-57.6,8.1) P2_G10(-59.4,8.1) P2_G11(-61.2,8.1) P2_G12(-63,8.1) P2_G13(-64.8,8.1) P2_G14(-66.6,8.1) P2_G15(-68.4,8.1) P2_G16(-70.2,8.1) P3_A1(-86.02,0) P3_A2(-87.82,0) P3_A3(-89.62,0) P3_A4(-91.42,0) P3_A5(-93.22,0) P3_A6(-95.02,0) P3_A7(-96.82,0) P3_A8(-98.62,0) P3_A9(-100.42,0) P3_A10(-102.22,0) P3_A11(-104.02,0) P3_A12(-105.82,0) P3_A13(-107.62,0) P3_A14(-109.42,0) P3_A15(-111.22,0) P3_A16(-113.02,0) P3_B1(-86.02,1.35) P3_B2(-87.82,1.35) P3_B3(-89.62,1.35) P3_B4(-91.42,1.35) P3_B5(-93.22,1.35) P3_B6(-95.02,1.35) P3_B7(-96.82,1.35) P3_B8(-98.62,1.35) P3_B9(-100.42,1.35) P3_B10(-102.22,1.35) P3_B11(-104.02,1.35) P3_B12(-105.82,1.35) P3_B13(-107.62,1.35) P3_B14(-109.42,1.35) P3_B15(-111.22,1.35) P3_B16(-113.02,1.35) P3_C1(-86.02,2.7) P3_C2(-87.82,2.7) P3_C3(-89.62,2.7) P3_C4(-91.42,2.7) P3_C5(-93.22,2.7) P3_C6(-95.02,2.7) P3_C7(-96.82,2.7) P3_C8(-98.62,2.7) P3_C9(-100.42,2.7) P3_C10(-102.22,2.7) P3_C11(-104.02,2.7) P3_C12(-105.82,2.7) P3_C13(-107.62,2.7) P3_C14(-109.42,2.7) P3_C15(-111.22,2.7) P3_C16(-113.02,2.7) P3_D1(-86.02,4.05) P3_D2(-87.82,4.05) P3_D3(-89.62,4.05) P3_D4(-91.42,4.05) P3_D5(-93.22,4.05) P3_D6(-95.02,4.05) P3_D7(-96.82,4.05) P3_D8(-98.62,4.05) P3_D9(-100.42,4.05) P3_D10(-102.22,4.05) P3_D11(-104.02,4.05) P3_D12(-105.82,4.05) P3_D13(-107.62,4.05) P3_D14(-109.42,4.05) P3_D15(-111.22,4.05) P3_D16(-113.02,4.05) P3_E1(-86.02,5.4) P3_E2(-87.82,5.4) P3_E3(-89.62,5.4) P3_E4(-91.42,5.4) P3_E5(-93.22,5.4) P3_E6(-95.02,5.4) P3_E7(-96.82,5.4) P3_E8(-98.62,5.4) P3_E9(-100.42,5.4) P3_E10(-102.22,5.4) P3_E11(-104.02,5.4) P3_E12(-105.82,5.4) P3_E13(-107.62,5.4) P3_E14(-109.42,5.4) P3_E15(-111.22,5.4) P3_E16(-113.02,5.4) P3_F1(-86.02,6.75) P3_F2(-87.82,6.75) P3_F3(-89.62,6.75) P3_F4(-91.42,6.75) P3_F5(-93.22,6.75) P3_F6(-95.02,6.75) P3_F7(-96.82,6.75) P3_F8(-98.62,6.75) P3_F9(-100.42,6.75) P3_F10(-102.22,6.75) P3_F11(-104.02,6.75) P3_F12(-105.82,6.75) P3_F13(-107.62,6.75) P3_F14(-109.42,6.75) P3_F15(-111.22,6.75) P3_F16(-113.02,6.75) P3_G1(-86.02,8.1) P3_G2(-87.82,8.1) P3_G3(-89.62,8.1) P3_G4(-91.42,8.1) P3_G5(-93.22,8.1) P3_G6(-95.02,8.1) P3_G7(-96.82,8.1) P3_G8(-98.62,8.1) P3_G9(-100.42,8.1) P3_G10(-102.22,8.1) P3_G11(-104.02,8.1) P3_G12(-105.82,8.1) P3_G13(-107.62,8.1) P3_G14(-109.42,8.1) P3_G15(-111.22,8.1) P3_G16(-113.02,8.1) P4_A1(-114.82,0) P4_A2(-116.62,0) P4_A3(-118.42,0) P4_A4(-120.22,0) P4_A5(-122.02,0) P4_A6(-123.82,0) P4_A7(-125.62,0) P4_A8(-127.42,0) P4_A9(-129.22,0) P4_A10(-131.02,0) P4_A11(-132.82,0) P4_A12(-134.62,0) P4_A13(-136.42,0) P4_A14(-138.22,0) P4_A15(-140.02,0) P4_A16(-141.82,0) P4_B1(-114.82,1.35) P4_B2(-116.62,1.35) P4_B3(-118.42,1.35) P4_B4(-120.22,1.35) P4_B5(-122.02,1.35) P4_B6(-123.82,1.35) P4_B7(-125.62,1.35) P4_B8(-127.42,1.35) P4_B9(-129.22,1.35) P4_B10(-131.02,1.35) P4_B11(-132.82,1.35) P4_B12(-134.62,1.35) P4_B13(-136.42,1.35) P4_B14(-138.22,1.35) P4_B15(-140.02,1.35) P4_B16(-141.82,1.35) P4_C1(-114.82,2.7) P4_C2(-116.62,2.7) P4_C3(-118.42,2.7) P4_C4(-120.22,2.7) P4_C5(-122.02,2.7) P4_C6(-123.82,2.7) P4_C7(-125.62,2.7) P4_C8(-127.42,2.7) P4_C9(-129.22,2.7) P4_C10(-131.02,2.7) P4_C11(-132.82,2.7) P4_C12(-134.62,2.7) P4_C13(-136.42,2.7) P4_C14(-138.22,2.7) P4_C15(-140.02,2.7) P4_C16(-141.82,2.7) P4_D1(-114.82,4.05) P4_D2(-116.62,4.05) P4_D3(-118.42,4.05) P4_D4(-120.22,4.05) P4_D5(-122.02,4.05) P4_D6(-123.82,4.05) P4_D7(-125.62,4.05) P4_D8(-127.42,4.05) P4_D9(-129.22,4.05) P4_D10(-131.02,4.05) P4_D11(-132.82,4.05) P4_D12(-134.62,4.05) P4_D13(-136.42,4.05) P4_D14(-138.22,4.05) P4_D15(-140.02,4.05) P4_D16(-141.82,4.05) P4_E1(-114.82,5.4) P4_E2(-116.62,5.4) P4_E3(-118.42,5.4) P4_E4(-120.22,5.4) P4_E5(-122.02,5.4) P4_E6(-123.82,5.4) P4_E7(-125.62,5.4) P4_E8(-127.42,5.4) P4_E9(-129.22,5.4) P4_E10(-131.02,5.4) P4_E11(-132.82,5.4) P4_E12(-134.62,5.4) P4_E13(-136.42,5.4) P4_E14(-138.22,5.4) P4_E15(-140.02,5.4) P4_E16(-141.82,5.4) P4_F1(-114.82,6.75) P4_F2(-116.62,6.75) P4_F3(-118.42,6.75) P4_F4(-120.22,6.75) P4_F5(-122.02,6.75) P4_F6(-123.82,6.75) P4_F7(-125.62,6.75) P4_F8(-127.42,6.75) P4_F9(-129.22,6.75) P4_F10(-131.02,6.75) P4_F11(-132.82,6.75) P4_F12(-134.62,6.75) P4_F13(-136.42,6.75) P4_F14(-138.22,6.75) P4_F15(-140.02,6.75) P4_F16(-141.82,6.75) P4_G1(-114.82,8.1) P4_G2(-116.62,8.1) P4_G3(-118.42,8.1) P4_G4(-120.22,8.1) P4_G5(-122.02,8.1) P4_G6(-123.82,8.1) P4_G7(-125.62,8.1) P4_G8(-127.42,8.1) P4_G9(-129.22,8.1) P4_G10(-131.02,8.1) P4_G11(-132.82,8.1) P4_G12(-134.62,8.1) P4_G13(-136.42,8.1) P4_G14(-138.22,8.1) P4_G15(-140.02,8.1) P4_G16(-141.82,8.1)
  round 4.65 hole 4.65: ""(-210.8,3.25) ""(-77.45,3.25) ""(7.25,3.25)
  round 3 hole 3: ""(-210.8,8.75) ""(-77.45,8.75) ""(7.25,8.75)
  round 0.6 hole 0.6: ""(-136.42,9.35) ""(-129.22,9.35) ""(-122.02,9.35) ""(-114.82,9.35) ""(-107.62,9.35) ""(-100.42,9.35) ""(-93.22,9.35) ""(-86.02,9.35) ""(-64.8,9.35) ""(-57.6,9.35) ""(-50.4,9.35) ""(-43.2,9.35) ""(-36,9.35) ""(-28.8,9.35) ""(-21.6,9.35) ""(-14.4,9.35) ""(-7.2,9.35) ""(0,9.35)
Top Overlay:
  lines w0.254: -142.66,-1.5 -113.98,-1.5 -113.98,10.31 -142.66,10.31 -142.66,-1.5 ; -113.86,-1.5 -85.18,-1.5 -85.18,10.31 -113.86,10.31 -113.86,-1.5 ; -71.04,-1.5 -42.36,-1.5 -42.36,10.31 -71.04,10.31 -71.04,-1.5 ; -42.24,-1.5 -13.56,-1.5 -13.56,10.31 -42.24,10.31 -42.24,-1.5 ; -13.44,-1.5 2.64,-1.5 2.64,10.31 -13.44,10.31 -13.44,-1.5
  text "F" at -143.953,6.25 h1
  text "E" at -143.953,4.9 h1
  text "D" at -143.953,3.55 h1
  text "C" at -143.953,2.2 h1
  text "G" at -143.953,7.6 h1
  text "A" at -143.953,-0.5 h1
  text "B" at -143.953,0.85 h1
  text "6" at -124.153,11.65 h1
  text "8" at -127.753,11.65 h1
  text "4" at -120.553,11.65 h1
  text "2" at -116.953,11.65 h1
  text "10" at -131.77,11.65 h1
  text "12" at -135.37,11.65 h1
  text "16" at -142.57,11.65 h1
  text "14" at -138.97,11.65 h1
  text "6" at -95.353,11.65 h1
  text "8" at -98.953,11.65 h1
  text "4" at -91.753,11.65 h1
  text "2" at -88.153,11.65 h1
  text "10" at -102.97,11.65 h1
  text "12" at -106.57,11.65 h1
  text "16" at -113.77,11.65 h1
  text "14" at -110.17,11.65 h1
  text "6" at -52.533,11.65 h1
  text "8" at -56.133,11.65 h1
  text "4" at -48.933,11.65 h1
  text "2" at -45.333,11.65 h1
  text "10" at -60.15,11.65 h1
  text "12" at -63.75,11.65 h1
  text "16" at -70.95,11.65 h1
  text "14" at -67.35,11.65 h1
  text "6" at -23.733,11.65 h1
  text "8" at -27.333,11.65 h1
  text "4" at -20.133,11.65 h1
  text "2" at -16.533,11.65 h1
  text "10" at -31.35,11.65 h1
  text "12" at -34.95,11.65 h1
  text "16" at -42.15,11.65 h1
  text "14" at -38.55,11.65 h1
  text "2" at -2.133,11.65 h1
  text "4" at -5.733,11.65 h1
  text "8" at -12.933,11.65 h1
  text "6" at -9.333,11.65 h1
  text "B" at 3.267,0.85 h1
  text "A" at 3.267,-0.5 h1
  text "G" at 3.267,7.6 h1
  text "C" at 3.267,2.2 h1
  text "D" at 3.267,3.55 h1
  text "E" at 3.267,4.9 h1
  text "F" at 3.267,6.25 h1
  text "F" at -84.553,6.25 h1
  text "E" at -84.553,4.9 h1
  text "D" at -84.553,3.55 h1
  text "C" at -84.553,2.2 h1
  text "G" at -84.553,7.6 h1
  text "A" at -84.553,-0.5 h1
  text "B" at -84.553,0.85 h1
  text "B" at -72.333,0.85 h1
  text "A" at -72.333,-0.5 h1
  text "G" at -72.333,7.6 h1
  text "C" at -72.333,2.2 h1
  text "D" at -72.333,3.55 h1
  text "E" at -72.333,4.9 h1
  text "F" at -72.333,6.25 h1
Bottom Overlay:
  text "F" at -143.287,6.25 h1
  text "E" at -143.287,4.9 h1
  text "D" at -143.287,3.55 h1
  text "C" at -143.287,2.2 h1
  text "G" at -143.287,7.6 h1
  text "A" at -143.287,-0.5 h1
  text "B" at -143.287,0.85 h1
  text "16" at -141.07,11.65 h1
  text "14" at -137.47,11.65 h1
  text "12" at -133.87,11.65 h1
  text "10" at -130.27,11.65 h1
  text "6" at -123.487,11.65 h1
  text "8" at -127.087,11.65 h1
  text "4" at -119.887,11.65 h1
  text "2" at -116.287,11.65 h1
  text "16" at -112.27,11.65 h1
  text "14" at -108.67,11.65 h1
  text "12" at -105.07,11.65 h1
  text "10" at -101.47,11.65 h1
  text "6" at -94.687,11.65 h1
  text "8" at -98.287,11.65 h1
  text "4" at -91.087,11.65 h1
  text "2" at -87.487,11.65 h1
  text "16" at -69.45,11.65 h1
  text "14" at -65.85,11.65 h1
  text "12" at -62.25,11.65 h1
  text "10" at -58.65,11.65 h1
  text "6" at -51.867,11.65 h1
  text "8" at -55.467,11.65 h1
  text "4" at -48.267,11.65 h1
  text "2" at -44.667,11.65 h1
  text "16" at -40.65,11.65 h1
  text "14" at -37.05,11.65 h1
  text "12" at -33.45,11.65 h1
  text "10" at -29.85,11.65 h1
  text "6" at -23.067,11.65 h1
  text "8" at -26.667,11.65 h1
  text "4" at -19.467,11.65 h1
  text "2" at -15.867,11.65 h1
  text "B" at 3.933,0.85 h1
  text "A" at 3.933,-0.5 h1
  text "G" at 3.933,7.6 h1
  text "C" at 3.933,2.2 h1
  text "D" at 3.933,3.55 h1
  text "E" at 3.933,4.9 h1
  text "F" at 3.933,6.25 h1
  text "2" at -1.467,11.65 h1
  text "4" at -5.067,11.65 h1
  text "8" at -12.267,11.65 h1
  text "6" at -8.667,11.65 h1
  text "F" at -83.887,6.25 h1
  text "E" at -83.887,4.9 h1
  text "D" at -83.887,3.55 h1
  text "C" at -83.887,2.2 h1
  text "G" at -83.887,7.6 h1
  text "A" at -83.887,-0.5 h1
  text "B" at -83.887,0.85 h1
  text "B" at -71.667,0.85 h1
  text "A" at -71.667,-0.5 h1
  text "G" at -71.667,7.6 h1
  text "C" at -71.667,2.2 h1
  text "D" at -71.667,3.55 h1
  text "E" at -71.667,4.9 h1
  text "F" at -71.667,6.25 h1